# Altium schematic symbol library TAJA106K006RNJ.SchLib: 2 symbols
Pins are listed as number, name and electrical type; pins without a type are passive.

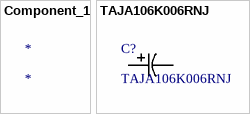
[diagram p0: symbols Component_1 to TAJA106K006RNJ]

## Component_1
designator *

## TAJA106K006RNJ
designator C?
No Description Available; Mfr_Name: KYOCERA AVX; Type: DEV; Copyright: Copyright (C) 2022 Ultra Librarian. All rights reserved.; Manufacturer_Part_Number: TAJA106K006RNJ; RefDes: RefDes
footprint TAJA_AVX
pins: 1 11, 2 12